# Altium schematic symbol library 1N5819.SchLib: 1 symbol
Pins are listed as number, name and electrical type; pins without a type are passive.

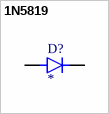
[diagram p0: symbol 1N5819]

## 1N5819
designator D?
1A, 40V, Schottky Rectifier; MP: 1N5819; MF: Taiwan Semiconductor; SnapEDA_Link: https://www.snapeda.com/parts/1N5819/Taiwan+Semiconductor/view-part/?ref=snap; Package: DO-41 Taiwan Semiconductor; Value: *; Purchase-URL: https://pricing.snapeda.com/search/part/1N5819/?ref=eda; Check_prices: https://www.snapeda.com/parts/1N5819/Taiwan+Semiconductor/view-part/?ref=eda; Availability: In Stock; Price: None
footprint DIOAD1036W78L470D235
pins: A, C K